# Altium schematic symbol library 互感器.SchLib: 1 symbol
Pins are listed as number, name and electrical type; pins without a type are passive.

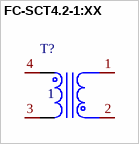
[diagram p0: symbol FC-SCT4.2-1:XX]

## FC-SCT4.2-1:XX
designator T?
pins: 1, 2, 3, 4